# Altium schematic symbol library Converter_DCDC.SchLib: 658 symbols (part 3 of 7)
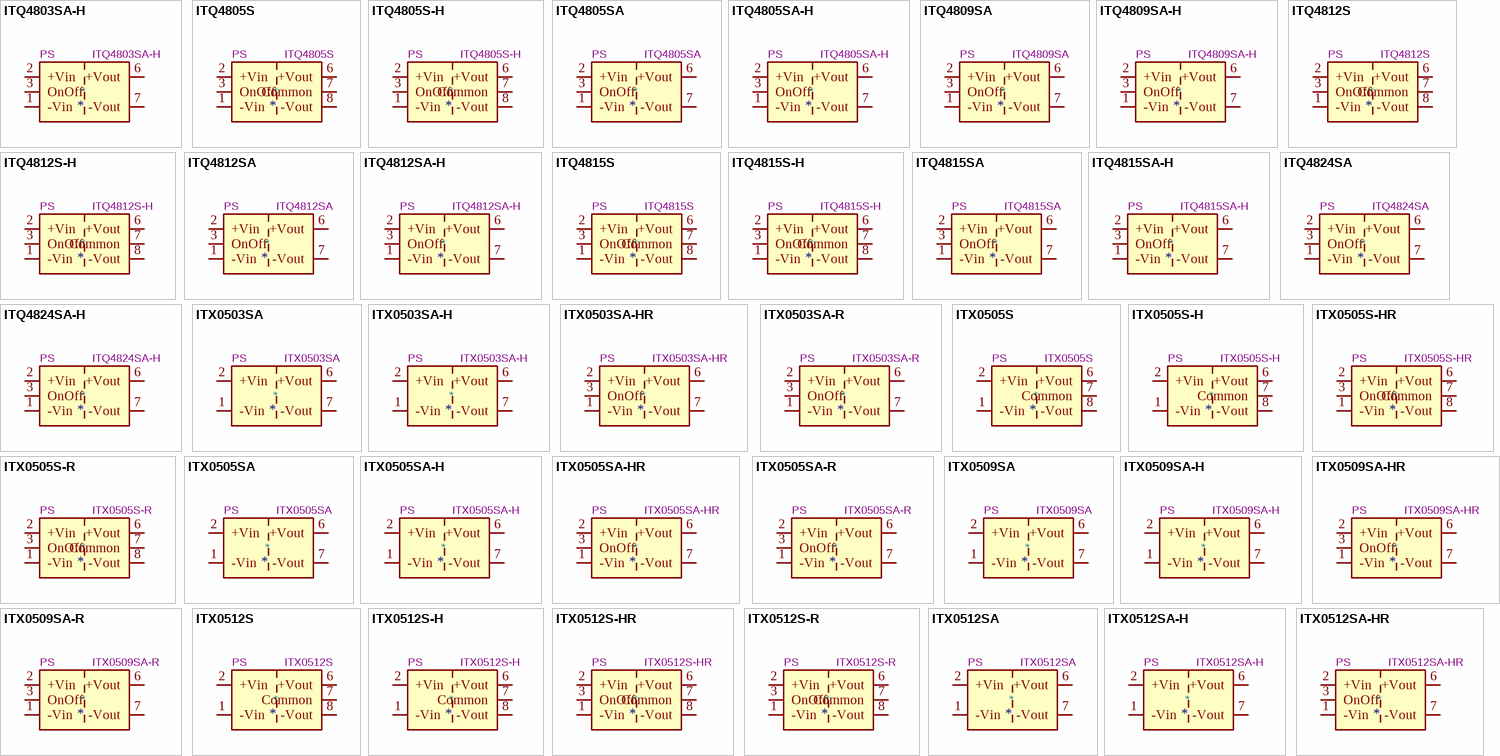
[diagram p18: symbols ITQ4803SA-H to ITX0512SA-HR]

## ITX0505S-H
designator *  value ITX0505S-H  Reference: PS
ki_keywords: XP_POWER DC/DC isolated Converter module; ki_description: XP Power 6W, 3000 VDC Isolated DC/DC Converter Module, Fully Regulated Dual Output Voltage ±5V, ±600mA, 5V Input Voltage, SIP; ki_fp_filters: *XP?POWER?ITxxxxx*; Footprint: Converter_DCDC:Converter_DCDC_XP_POWER-ITxxxxxS_THT; Datasheet: https://www.xppower.com/pdfs/SF_ITX.pdf
pins: 1 -Vin, 2 +Vin, 3 NC hidden, 5 NC hidden, 6 +Vout, 7 Common, 8 -Vout

## ITX0505S-HR
designator *  value ITX0505S-HR  Reference: PS
ki_keywords: XP_POWER DC/DC isolated Converter module; ki_description: XP Power 6W, 3000 VDC Isolated DC/DC Converter Module, Remote Control, Fully Regulated Dual Output Voltage ±5V, ±600mA, 5V Input Voltage, SIP; ki_fp_filters: *XP?POWER?ITxxxxx*; Footprint: Converter_DCDC:Converter_DCDC_XP_POWER-ITxxxxxS_THT; Datasheet: https://www.xppower.com/pdfs/SF_ITX.pdf
pins: 1 -Vin, 2 +Vin, 3 OnOff, 5 NC hidden, 6 +Vout, 7 Common, 8 -Vout

## ITX0505S-R
designator *  value ITX0505S-R  Reference: PS
ki_keywords: XP_POWER DC/DC isolated Converter module; ki_description: XP Power 6W, 1000 VDC Isolated DC/DC Converter Module, Remote Control, Fully Regulated Dual Output Voltage ±5V, ±600mA, 5V Input Voltage, SIP; ki_fp_filters: *XP?POWER?ITxxxxx*; Footprint: Converter_DCDC:Converter_DCDC_XP_POWER-ITxxxxxS_THT; Datasheet: https://www.xppower.com/pdfs/SF_ITX.pdf
pins: 1 -Vin, 2 +Vin, 3 OnOff, 5 NC hidden, 6 +Vout, 7 Common, 8 -Vout

## ITX0505SA
designator *  value ITX0505SA  Reference: PS
ki_keywords: XP_POWER DC/DC isolated Converter module; ki_description: XP Power 6W, 1000 VDC Isolated DC/DC Converter Module, Fully Regulated Single Output Voltage 5V, ±1200mA, 5V Input Voltage, SIP; ki_fp_filters: *XP?POWER?ITXxxxxSA*; Footprint: Converter_DCDC:Converter_DCDC_XP_POWER-ITXxxxxSA_THT; Datasheet: https://www.xppower.com/pdfs/SF_ITX.pdf
pins: 1 -Vin, 2 +Vin, 6 +Vout, 7 -Vout, 8 NC hidden

## ITX0505SA-H
designator *  value ITX0505SA-H  Reference: PS
ki_keywords: XP_POWER DC/DC isolated Converter module; ki_description: XP Power 6W, 3000 VDC Isolated DC/DC Converter Module, Fully Regulated Single Output Voltage 5V, ±1200mA, 5V Input Voltage, SIP; ki_fp_filters: *XP?POWER?ITXxxxxSA*; Footprint: Converter_DCDC:Converter_DCDC_XP_POWER-ITXxxxxSA_THT; Datasheet: https://www.xppower.com/pdfs/SF_ITX.pdf
pins: 1 -Vin, 2 +Vin, 6 +Vout, 7 -Vout, 8 NC hidden

## ITX0505SA-HR
designator *  value ITX0505SA-HR  Reference: PS
ki_keywords: XP_POWER DC/DC isolated Converter module; ki_description: XP Power 6W, 3000 VDC Isolated DC/DC Converter Module, Remote Control, Fully Regulated Single Output Voltage 5V, ±1200mA, 5V Input Voltage, SIP; ki_fp_filters: *XP?POWER?ITxxxxx*; Footprint: Converter_DCDC:Converter_DCDC_XP_POWER-ITxxxxxS_THT; Datasheet: https://www.xppower.com/pdfs/SF_ITX.pdf
pins: 1 -Vin, 2 +Vin, 3 OnOff, 5 NC hidden, 6 +Vout, 7 -Vout, 8 NC hidden

## ITX0505SA-R
designator *  value ITX0505SA-R  Reference: PS
ki_keywords: XP_POWER DC/DC isolated Converter module; ki_description: XP Power 6W, 1000 VDC Isolated DC/DC Converter Module, Remote Control, Fully Regulated Single Output Voltage 5V, ±1200mA, 5V Input Voltage, SIP; ki_fp_filters: *XP?POWER?ITxxxxx*; Footprint: Converter_DCDC:Converter_DCDC_XP_POWER-ITxxxxxS_THT; Datasheet: https://www.xppower.com/pdfs/SF_ITX.pdf
pins: 1 -Vin, 2 +Vin, 3 OnOff, 5 NC hidden, 6 +Vout, 7 -Vout, 8 NC hidden

## ITX0509SA
designator *  value ITX0509SA  Reference: PS
ki_keywords: XP_POWER DC/DC isolated Converter module; ki_description: XP Power 6W, 1000 VDC Isolated DC/DC Converter Module, Fully Regulated Single Output Voltage 9V, ±666mA, 5V Input Voltage, SIP; ki_fp_filters: *XP?POWER?ITXxxxxSA*; Footprint: Converter_DCDC:Converter_DCDC_XP_POWER-ITXxxxxSA_THT; Datasheet: https://www.xppower.com/pdfs/SF_ITX.pdf
pins: 1 -Vin, 2 +Vin, 6 +Vout, 7 -Vout, 8 NC hidden

## ITX0509SA-H
designator *  value ITX0509SA-H  Reference: PS
ki_keywords: XP_POWER DC/DC isolated Converter module; ki_description: XP Power 6W, 3000 VDC Isolated DC/DC Converter Module, Fully Regulated Single Output Voltage 9V, ±666mA, 5V Input Voltage, SIP; ki_fp_filters: *XP?POWER?ITXxxxxSA*; Footprint: Converter_DCDC:Converter_DCDC_XP_POWER-ITXxxxxSA_THT; Datasheet: https://www.xppower.com/pdfs/SF_ITX.pdf
pins: 1 -Vin, 2 +Vin, 6 +Vout, 7 -Vout, 8 NC hidden

## ITX0509SA-HR
designator *  value ITX0509SA-HR  Reference: PS
ki_keywords: XP_POWER DC/DC isolated Converter module; ki_description: XP Power 6W, 3000 VDC Isolated DC/DC Converter Module, Remote Control, Fully Regulated Single Output Voltage 9V, ±666mA, 5V Input Voltage, SIP; ki_fp_filters: *XP?POWER?ITxxxxx*; Footprint: Converter_DCDC:Converter_DCDC_XP_POWER-ITxxxxxS_THT; Datasheet: https://www.xppower.com/pdfs/SF_ITX.pdf
pins: 1 -Vin, 2 +Vin, 3 OnOff, 5 NC hidden, 6 +Vout, 7 -Vout, 8 NC hidden

## ITX0509SA-R
designator *  value ITX0509SA-R  Reference: PS
ki_keywords: XP_POWER DC/DC isolated Converter module; ki_description: XP Power 6W, 1000 VDC Isolated DC/DC Converter Module, Remote Control, Fully Regulated Single Output Voltage 9V, ±666mA, 5V Input Voltage, SIP; ki_fp_filters: *XP?POWER?ITxxxxx*; Footprint: Converter_DCDC:Converter_DCDC_XP_POWER-ITxxxxxS_THT; Datasheet: https://www.xppower.com/pdfs/SF_ITX.pdf
pins: 1 -Vin, 2 +Vin, 3 OnOff, 5 NC hidden, 6 +Vout, 7 -Vout, 8 NC hidden

## ITX0512S
designator *  value ITX0512S  Reference: PS
ki_keywords: XP_POWER DC/DC isolated Converter module; ki_description: XP Power 6W, 1000 VDC Isolated DC/DC Converter Module, Fully Regulated Dual Output Voltage ±12V, ±250mA, 5V Input Voltage, SIP; ki_fp_filters: *XP?POWER?ITxxxxx*; Footprint: Converter_DCDC:Converter_DCDC_XP_POWER-ITxxxxxS_THT; Datasheet: https://www.xppower.com/pdfs/SF_ITX.pdf
pins: 1 -Vin, 2 +Vin, 3 NC hidden, 5 NC hidden, 6 +Vout, 7 Common, 8 -Vout

## ITX0512S-H
designator *  value ITX0512S-H  Reference: PS
ki_keywords: XP_POWER DC/DC isolated Converter module; ki_description: XP Power 6W, 3000 VDC Isolated DC/DC Converter Module, Fully Regulated Dual Output Voltage ±12V, ±250mA, 5V Input Voltage, SIP; ki_fp_filters: *XP?POWER?ITxxxxx*; Footprint: Converter_DCDC:Converter_DCDC_XP_POWER-ITxxxxxS_THT; Datasheet: https://www.xppower.com/pdfs/SF_ITX.pdf
pins: 1 -Vin, 2 +Vin, 3 NC hidden, 5 NC hidden, 6 +Vout, 7 Common, 8 -Vout

## ITX0512S-HR
designator *  value ITX0512S-HR  Reference: PS
ki_keywords: XP_POWER DC/DC isolated Converter module; ki_description: XP Power 6W, 3000 VDC Isolated DC/DC Converter Module, Remote Control, Fully Regulated Dual Output Voltage ±12V, ±250mA, 5V Input Voltage, SIP; ki_fp_filters: *XP?POWER?ITxxxxx*; Footprint: Converter_DCDC:Converter_DCDC_XP_POWER-ITxxxxxS_THT; Datasheet: https://www.xppower.com/pdfs/SF_ITX.pdf
pins: 1 -Vin, 2 +Vin, 3 OnOff, 5 NC hidden, 6 +Vout, 7 Common, 8 -Vout

## ITX0512S-R
designator *  value ITX0512S-R  Reference: PS
ki_keywords: XP_POWER DC/DC isolated Converter module; ki_description: XP Power 6W, 1000 VDC Isolated DC/DC Converter Module, Remote Control, Fully Regulated Dual Output Voltage ±12V, ±250mA, 5V Input Voltage, SIP; ki_fp_filters: *XP?POWER?ITxxxxx*; Footprint: Converter_DCDC:Converter_DCDC_XP_POWER-ITxxxxxS_THT; Datasheet: https://www.xppower.com/pdfs/SF_ITX.pdf
pins: 1 -Vin, 2 +Vin, 3 OnOff, 5 NC hidden, 6 +Vout, 7 Common, 8 -Vout

## ITX0512SA
designator *  value ITX0512SA  Reference: PS
ki_keywords: XP_POWER DC/DC isolated Converter module; ki_description: XP Power 6W, 1000 VDC Isolated DC/DC Converter Module, Fully Regulated Single Output Voltage 12V, ±500mA, 5V Input Voltage, SIP; ki_fp_filters: *XP?POWER?ITXxxxxSA*; Footprint: Converter_DCDC:Converter_DCDC_XP_POWER-ITXxxxxSA_THT; Datasheet: https://www.xppower.com/pdfs/SF_ITX.pdf
pins: 1 -Vin, 2 +Vin, 6 +Vout, 7 -Vout, 8 NC hidden

## ITX0512SA-H
designator *  value ITX0512SA-H  Reference: PS
ki_keywords: XP_POWER DC/DC isolated Converter module; ki_description: XP Power 6W, 3000 VDC Isolated DC/DC Converter Module, Fully Regulated Single Output Voltage 12V, ±500mA, 5V Input Voltage, SIP; ki_fp_filters: *XP?POWER?ITXxxxxSA*; Footprint: Converter_DCDC:Converter_DCDC_XP_POWER-ITXxxxxSA_THT; Datasheet: https://www.xppower.com/pdfs/SF_ITX.pdf
pins: 1 -Vin, 2 +Vin, 6 +Vout, 7 -Vout, 8 NC hidden

## ITX0512SA-HR
designator *  value ITX0512SA-HR  Reference: PS
ki_keywords: XP_POWER DC/DC isolated Converter module; ki_description: XP Power 6W, 3000 VDC Isolated DC/DC Converter Module, Remote Control, Fully Regulated Single Output Voltage 12V, ±500mA, 5V Input Voltage, SIP; ki_fp_filters: *XP?POWER?ITxxxxx*; Footprint: Converter_DCDC:Converter_DCDC_XP_POWER-ITxxxxxS_THT; Datasheet: https://www.xppower.com/pdfs/SF_ITX.pdf
pins: 1 -Vin, 2 +Vin, 3 OnOff, 5 NC hidden, 6 +Vout, 7 -Vout, 8 NC hidden

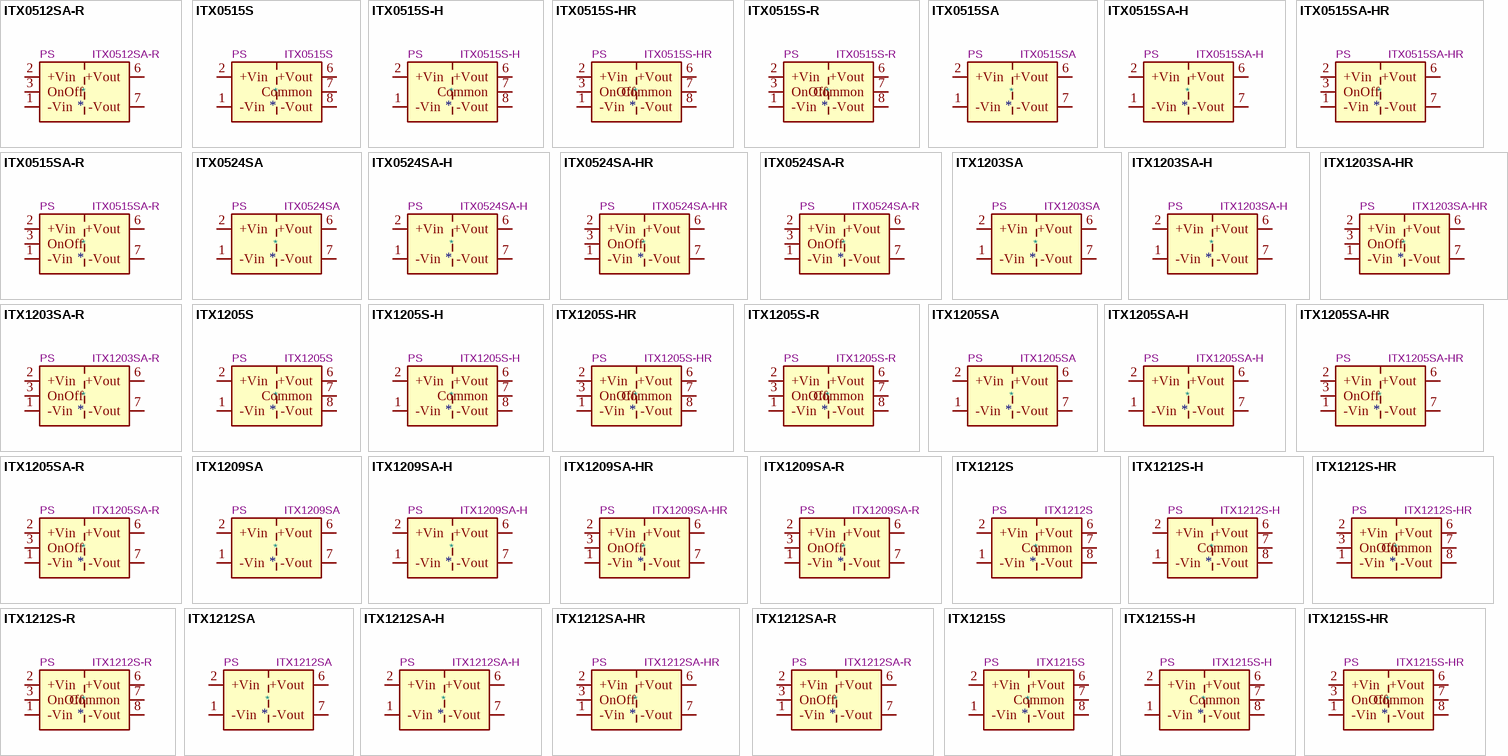
[diagram p6: symbols ITX0512SA-R to ITX1215S-HR]

## ITX0512SA-R
designator *  value ITX0512SA-R  Reference: PS
ki_keywords: XP_POWER DC/DC isolated Converter module; ki_description: XP Power 6W, 1000 VDC Isolated DC/DC Converter Module, Remote Control, Fully Regulated Single Output Voltage 12V, ±500mA, 5V Input Voltage, SIP; ki_fp_filters: *XP?POWER?ITxxxxx*; Footprint: Converter_DCDC:Converter_DCDC_XP_POWER-ITxxxxxS_THT; Datasheet: https://www.xppower.com/pdfs/SF_ITX.pdf
pins: 1 -Vin, 2 +Vin, 3 OnOff, 5 NC hidden, 6 +Vout, 7 -Vout, 8 NC hidden

## ITX0515S
designator *  value ITX0515S  Reference: PS
ki_keywords: XP_POWER DC/DC isolated Converter module; ki_description: XP Power 6W, 1000 VDC Isolated DC/DC Converter Module, Fully Regulated Dual Output Voltage ±15V, ±200mA, 5V Input Voltage, SIP; ki_fp_filters: *XP?POWER?ITxxxxx*; Footprint: Converter_DCDC:Converter_DCDC_XP_POWER-ITxxxxxS_THT; Datasheet: https://www.xppower.com/pdfs/SF_ITX.pdf
pins: 1 -Vin, 2 +Vin, 3 NC hidden, 5 NC hidden, 6 +Vout, 7 Common, 8 -Vout

## ITX0515S-H
designator *  value ITX0515S-H  Reference: PS
ki_keywords: XP_POWER DC/DC isolated Converter module; ki_description: XP Power 6W, 3000 VDC Isolated DC/DC Converter Module, Fully Regulated Dual Output Voltage ±15V, ±200mA, 5V Input Voltage, SIP; ki_fp_filters: *XP?POWER?ITxxxxx*; Footprint: Converter_DCDC:Converter_DCDC_XP_POWER-ITxxxxxS_THT; Datasheet: https://www.xppower.com/pdfs/SF_ITX.pdf
pins: 1 -Vin, 2 +Vin, 3 NC hidden, 5 NC hidden, 6 +Vout, 7 Common, 8 -Vout

## ITX0515S-HR
designator *  value ITX0515S-HR  Reference: PS
ki_keywords: XP_POWER DC/DC isolated Converter module; ki_description: XP Power 6W, 3000 VDC Isolated DC/DC Converter Module, Remote Control, Fully Regulated Dual Output Voltage ±15V, ±200mA, 5V Input Voltage, SIP; ki_fp_filters: *XP?POWER?ITxxxxx*; Footprint: Converter_DCDC:Converter_DCDC_XP_POWER-ITxxxxxS_THT; Datasheet: https://www.xppower.com/pdfs/SF_ITX.pdf
pins: 1 -Vin, 2 +Vin, 3 OnOff, 5 NC hidden, 6 +Vout, 7 Common, 8 -Vout

## ITX0515S-R
designator *  value ITX0515S-R  Reference: PS
ki_keywords: XP_POWER DC/DC isolated Converter module; ki_description: XP Power 6W, 1000 VDC Isolated DC/DC Converter Module, Remote Control, Fully Regulated Dual Output Voltage ±15V, ±200mA, 5V Input Voltage, SIP; ki_fp_filters: *XP?POWER?ITxxxxx*; Footprint: Converter_DCDC:Converter_DCDC_XP_POWER-ITxxxxxS_THT; Datasheet: https://www.xppower.com/pdfs/SF_ITX.pdf
pins: 1 -Vin, 2 +Vin, 3 OnOff, 5 NC hidden, 6 +Vout, 7 Common, 8 -Vout

## ITX0515SA
designator *  value ITX0515SA  Reference: PS
ki_keywords: XP_POWER DC/DC isolated Converter module; ki_description: XP Power 6W, 1000 VDC Isolated DC/DC Converter Module, Fully Regulated Single Output Voltage 15V, ±400mA, 5V Input Voltage, SIP; ki_fp_filters: *XP?POWER?ITXxxxxSA*; Footprint: Converter_DCDC:Converter_DCDC_XP_POWER-ITXxxxxSA_THT; Datasheet: https://www.xppower.com/pdfs/SF_ITX.pdf
pins: 1 -Vin, 2 +Vin, 6 +Vout, 7 -Vout, 8 NC hidden

## ITX0515SA-H
designator *  value ITX0515SA-H  Reference: PS
ki_keywords: XP_POWER DC/DC isolated Converter module; ki_description: XP Power 6W, 3000 VDC Isolated DC/DC Converter Module, Fully Regulated Single Output Voltage 15V, ±400mA, 5V Input Voltage, SIP; ki_fp_filters: *XP?POWER?ITXxxxxSA*; Footprint: Converter_DCDC:Converter_DCDC_XP_POWER-ITXxxxxSA_THT; Datasheet: https://www.xppower.com/pdfs/SF_ITX.pdf
pins: 1 -Vin, 2 +Vin, 6 +Vout, 7 -Vout, 8 NC hidden

## ITX0515SA-HR
designator *  value ITX0515SA-HR  Reference: PS
ki_keywords: XP_POWER DC/DC isolated Converter module; ki_description: XP Power 6W, 3000 VDC Isolated DC/DC Converter Module, Remote Control, Fully Regulated Single Output Voltage 15V, ±400mA, 5V Input Voltage, SIP; ki_fp_filters: *XP?POWER?ITxxxxx*; Footprint: Converter_DCDC:Converter_DCDC_XP_POWER-ITxxxxxS_THT; Datasheet: https://www.xppower.com/pdfs/SF_ITX.pdf
pins: 1 -Vin, 2 +Vin, 3 OnOff, 5 NC hidden, 6 +Vout, 7 -Vout, 8 NC hidden

## ITX0515SA-R
designator *  value ITX0515SA-R  Reference: PS
ki_keywords: XP_POWER DC/DC isolated Converter module; ki_description: XP Power 6W, 1000 VDC Isolated DC/DC Converter Module, Remote Control, Fully Regulated Single Output Voltage 15V, ±400mA, 5V Input Voltage, SIP; ki_fp_filters: *XP?POWER?ITxxxxx*; Footprint: Converter_DCDC:Converter_DCDC_XP_POWER-ITxxxxxS_THT; Datasheet: https://www.xppower.com/pdfs/SF_ITX.pdf
pins: 1 -Vin, 2 +Vin, 3 OnOff, 5 NC hidden, 6 +Vout, 7 -Vout, 8 NC hidden

## ITX0524SA
designator *  value ITX0524SA  Reference: PS
ki_keywords: XP_POWER DC/DC isolated Converter module; ki_description: XP Power 6W, 1000 VDC Isolated DC/DC Converter Module, Fully Regulated Single Output Voltage 24V, ±250mA, 5V Input Voltage, SIP; ki_fp_filters: *XP?POWER?ITXxxxxSA*; Footprint: Converter_DCDC:Converter_DCDC_XP_POWER-ITXxxxxSA_THT; Datasheet: https://www.xppower.com/pdfs/SF_ITX.pdf
pins: 1 -Vin, 2 +Vin, 6 +Vout, 7 -Vout, 8 NC hidden

## ITX0524SA-H
designator *  value ITX0524SA-H  Reference: PS
ki_keywords: XP_POWER DC/DC isolated Converter module; ki_description: XP Power 6W, 3000 VDC Isolated DC/DC Converter Module, Fully Regulated Single Output Voltage 24V, ±250mA, 5V Input Voltage, SIP; ki_fp_filters: *XP?POWER?ITXxxxxSA*; Footprint: Converter_DCDC:Converter_DCDC_XP_POWER-ITXxxxxSA_THT; Datasheet: https://www.xppower.com/pdfs/SF_ITX.pdf
pins: 1 -Vin, 2 +Vin, 6 +Vout, 7 -Vout, 8 NC hidden

## ITX0524SA-HR
designator *  value ITX0524SA-HR  Reference: PS
ki_keywords: XP_POWER DC/DC isolated Converter module; ki_description: XP Power 6W, 3000 VDC Isolated DC/DC Converter Module, Remote Control, Fully Regulated Single Output Voltage 24V, ±250mA, 5V Input Voltage, SIP; ki_fp_filters: *XP?POWER?ITxxxxx*; Footprint: Converter_DCDC:Converter_DCDC_XP_POWER-ITxxxxxS_THT; Datasheet: https://www.xppower.com/pdfs/SF_ITX.pdf
pins: 1 -Vin, 2 +Vin, 3 OnOff, 5 NC hidden, 6 +Vout, 7 -Vout, 8 NC hidden

## ITX0524SA-R
designator *  value ITX0524SA-R  Reference: PS
ki_keywords: XP_POWER DC/DC isolated Converter module; ki_description: XP Power 6W, 1000 VDC Isolated DC/DC Converter Module, Remote Control, Fully Regulated Single Output Voltage 24V, ±250mA, 5V Input Voltage, SIP; ki_fp_filters: *XP?POWER?ITxxxxx*; Footprint: Converter_DCDC:Converter_DCDC_XP_POWER-ITxxxxxS_THT; Datasheet: https://www.xppower.com/pdfs/SF_ITX.pdf
pins: 1 -Vin, 2 +Vin, 3 OnOff, 5 NC hidden, 6 +Vout, 7 -Vout, 8 NC hidden

## ITX1203SA
designator *  value ITX1203SA  Reference: PS
ki_keywords: XP_POWER DC/DC isolated Converter module; ki_description: XP Power 6W, 1000 VDC Isolated DC/DC Converter Module, Fully Regulated Single Output Voltage 3.3V, ±1300mA, 12V Input Voltage, SIP; ki_fp_filters: *XP?POWER?ITXxxxxSA*; Footprint: Converter_DCDC:Converter_DCDC_XP_POWER-ITXxxxxSA_THT; Datasheet: https://www.xppower.com/pdfs/SF_ITX.pdf
pins: 1 -Vin, 2 +Vin, 6 +Vout, 7 -Vout, 8 NC hidden

## ITX1203SA-H
designator *  value ITX1203SA-H  Reference: PS
ki_keywords: XP_POWER DC/DC isolated Converter module; ki_description: XP Power 6W, 3000 VDC Isolated DC/DC Converter Module, Fully Regulated Single Output Voltage 3.3V, ±1300mA, 12V Input Voltage, SIP; ki_fp_filters: *XP?POWER?ITXxxxxSA*; Footprint: Converter_DCDC:Converter_DCDC_XP_POWER-ITXxxxxSA_THT; Datasheet: https://www.xppower.com/pdfs/SF_ITX.pdf
pins: 1 -Vin, 2 +Vin, 6 +Vout, 7 -Vout, 8 NC hidden

## ITX1203SA-HR
designator *  value ITX1203SA-HR  Reference: PS
ki_keywords: XP_POWER DC/DC isolated Converter module; ki_description: XP Power 6W, 3000 VDC Isolated DC/DC Converter Module, Remote Control, Fully Regulated Single Output Voltage 3.3V, ±1300mA, 12V Input Voltage, SIP; ki_fp_filters: *XP?POWER?ITxxxxx*; Footprint: Converter_DCDC:Converter_DCDC_XP_POWER-ITxxxxxS_THT; Datasheet: https://www.xppower.com/pdfs/SF_ITX.pdf
pins: 1 -Vin, 2 +Vin, 3 OnOff, 5 NC hidden, 6 +Vout, 7 -Vout, 8 NC hidden

## ITX1203SA-R
designator *  value ITX1203SA-R  Reference: PS
ki_keywords: XP_POWER DC/DC isolated Converter module; ki_description: XP Power 6W, 1000 VDC Isolated DC/DC Converter Module, Remote Control, Fully Regulated Single Output Voltage 3.3V, ±1300mA, 12V Input Voltage, SIP; ki_fp_filters: *XP?POWER?ITxxxxx*; Footprint: Converter_DCDC:Converter_DCDC_XP_POWER-ITxxxxxS_THT; Datasheet: https://www.xppower.com/pdfs/SF_ITX.pdf
pins: 1 -Vin, 2 +Vin, 3 OnOff, 5 NC hidden, 6 +Vout, 7 -Vout, 8 NC hidden

## ITX1205S
designator *  value ITX1205S  Reference: PS
ki_keywords: XP_POWER DC/DC isolated Converter module; ki_description: XP Power 6W, 1000 VDC Isolated DC/DC Converter Module, Fully Regulated Dual Output Voltage ±5V, ±600mA, 12V Input Voltage, SIP; ki_fp_filters: *XP?POWER?ITxxxxx*; Footprint: Converter_DCDC:Converter_DCDC_XP_POWER-ITxxxxxS_THT; Datasheet: https://www.xppower.com/pdfs/SF_ITX.pdf
pins: 1 -Vin, 2 +Vin, 3 NC hidden, 5 NC hidden, 6 +Vout, 7 Common, 8 -Vout

## ITX1205S-H
designator *  value ITX1205S-H  Reference: PS
ki_keywords: XP_POWER DC/DC isolated Converter module; ki_description: XP Power 6W, 3000 VDC Isolated DC/DC Converter Module, Fully Regulated Dual Output Voltage ±5V, ±600mA, 12V Input Voltage, SIP; ki_fp_filters: *XP?POWER?ITxxxxx*; Footprint: Converter_DCDC:Converter_DCDC_XP_POWER-ITxxxxxS_THT; Datasheet: https://www.xppower.com/pdfs/SF_ITX.pdf
pins: 1 -Vin, 2 +Vin, 3 NC hidden, 5 NC hidden, 6 +Vout, 7 Common, 8 -Vout

## ITX1205S-HR
designator *  value ITX1205S-HR  Reference: PS
ki_keywords: XP_POWER DC/DC isolated Converter module; ki_description: XP Power 6W, 3000 VDC Isolated DC/DC Converter Module, Remote Control, Fully Regulated Dual Output Voltage ±5V, ±600mA, 12V Input Voltage, SIP; ki_fp_filters: *XP?POWER?ITxxxxx*; Footprint: Converter_DCDC:Converter_DCDC_XP_POWER-ITxxxxxS_THT; Datasheet: https://www.xppower.com/pdfs/SF_ITX.pdf
pins: 1 -Vin, 2 +Vin, 3 OnOff, 5 NC hidden, 6 +Vout, 7 Common, 8 -Vout

## ITX1205S-R
designator *  value ITX1205S-R  Reference: PS
ki_keywords: XP_POWER DC/DC isolated Converter module; ki_description: XP Power 6W, 1000 VDC Isolated DC/DC Converter Module, Remote Control, Fully Regulated Dual Output Voltage ±5V, ±600mA, 12V Input Voltage, SIP; ki_fp_filters: *XP?POWER?ITxxxxx*; Footprint: Converter_DCDC:Converter_DCDC_XP_POWER-ITxxxxxS_THT; Datasheet: https://www.xppower.com/pdfs/SF_ITX.pdf
pins: 1 -Vin, 2 +Vin, 3 OnOff, 5 NC hidden, 6 +Vout, 7 Common, 8 -Vout

## ITX1205SA
designator *  value ITX1205SA  Reference: PS
ki_keywords: XP_POWER DC/DC isolated Converter module; ki_description: XP Power 6W, 1000 VDC Isolated DC/DC Converter Module, Fully Regulated Single Output Voltage 5V, ±1200mA, 12V Input Voltage, SIP; ki_fp_filters: *XP?POWER?ITXxxxxSA*; Footprint: Converter_DCDC:Converter_DCDC_XP_POWER-ITXxxxxSA_THT; Datasheet: https://www.xppower.com/pdfs/SF_ITX.pdf
pins: 1 -Vin, 2 +Vin, 6 +Vout, 7 -Vout, 8 NC hidden

## ITX1205SA-H
designator *  value ITX1205SA-H  Reference: PS
ki_keywords: XP_POWER DC/DC isolated Converter module; ki_description: XP Power 6W, 3000 VDC Isolated DC/DC Converter Module, Fully Regulated Single Output Voltage 5V, ±1200mA, 12V Input Voltage, SIP; ki_fp_filters: *XP?POWER?ITXxxxxSA*; Footprint: Converter_DCDC:Converter_DCDC_XP_POWER-ITXxxxxSA_THT; Datasheet: https://www.xppower.com/pdfs/SF_ITX.pdf
pins: 1 -Vin, 2 +Vin, 6 +Vout, 7 -Vout, 8 NC hidden

## ITX1205SA-HR
designator *  value ITX1205SA-HR  Reference: PS
ki_keywords: XP_POWER DC/DC isolated Converter module; ki_description: XP Power 6W, 3000 VDC Isolated DC/DC Converter Module, Remote Control, Fully Regulated Single Output Voltage 5V, ±1200mA, 12V Input Voltage, SIP; ki_fp_filters: *XP?POWER?ITxxxxx*; Footprint: Converter_DCDC:Converter_DCDC_XP_POWER-ITxxxxxS_THT; Datasheet: https://www.xppower.com/pdfs/SF_ITX.pdf
pins: 1 -Vin, 2 +Vin, 3 OnOff, 5 NC hidden, 6 +Vout, 7 -Vout, 8 NC hidden

## ITX1205SA-R
designator *  value ITX1205SA-R  Reference: PS
ki_keywords: XP_POWER DC/DC isolated Converter module; ki_description: XP Power 6W, 1000 VDC Isolated DC/DC Converter Module, Remote Control, Fully Regulated Single Output Voltage 5V, ±1200mA, 12V Input Voltage, SIP; ki_fp_filters: *XP?POWER?ITxxxxx*; Footprint: Converter_DCDC:Converter_DCDC_XP_POWER-ITxxxxxS_THT; Datasheet: https://www.xppower.com/pdfs/SF_ITX.pdf
pins: 1 -Vin, 2 +Vin, 3 OnOff, 5 NC hidden, 6 +Vout, 7 -Vout, 8 NC hidden

## ITX1209SA
designator *  value ITX1209SA  Reference: PS
ki_keywords: XP_POWER DC/DC isolated Converter module; ki_description: XP Power 6W, 1000 VDC Isolated DC/DC Converter Module, Fully Regulated Single Output Voltage 9V, ±666mA, 12V Input Voltage, SIP; ki_fp_filters: *XP?POWER?ITXxxxxSA*; Footprint: Converter_DCDC:Converter_DCDC_XP_POWER-ITXxxxxSA_THT; Datasheet: https://www.xppower.com/pdfs/SF_ITX.pdf
pins: 1 -Vin, 2 +Vin, 6 +Vout, 7 -Vout, 8 NC hidden

## ITX1209SA-H
designator *  value ITX1209SA-H  Reference: PS
ki_keywords: XP_POWER DC/DC isolated Converter module; ki_description: XP Power 6W, 3000 VDC Isolated DC/DC Converter Module, Fully Regulated Single Output Voltage 9V, ±666mA, 12V Input Voltage, SIP; ki_fp_filters: *XP?POWER?ITXxxxxSA*; Footprint: Converter_DCDC:Converter_DCDC_XP_POWER-ITXxxxxSA_THT; Datasheet: https://www.xppower.com/pdfs/SF_ITX.pdf
pins: 1 -Vin, 2 +Vin, 6 +Vout, 7 -Vout, 8 NC hidden

## ITX1209SA-HR
designator *  value ITX1209SA-HR  Reference: PS
ki_keywords: XP_POWER DC/DC isolated Converter module; ki_description: XP Power 6W, 3000 VDC Isolated DC/DC Converter Module, Remote Control, Fully Regulated Single Output Voltage 9V, ±666mA, 12V Input Voltage, SIP; ki_fp_filters: *XP?POWER?ITxxxxx*; Footprint: Converter_DCDC:Converter_DCDC_XP_POWER-ITxxxxxS_THT; Datasheet: https://www.xppower.com/pdfs/SF_ITX.pdf
pins: 1 -Vin, 2 +Vin, 3 OnOff, 5 NC hidden, 6 +Vout, 7 -Vout, 8 NC hidden

## ITX1209SA-R
designator *  value ITX1209SA-R  Reference: PS
ki_keywords: XP_POWER DC/DC isolated Converter module; ki_description: XP Power 6W, 1000 VDC Isolated DC/DC Converter Module, Remote Control, Fully Regulated Single Output Voltage 9V, ±666mA, 12V Input Voltage, SIP; ki_fp_filters: *XP?POWER?ITxxxxx*; Footprint: Converter_DCDC:Converter_DCDC_XP_POWER-ITxxxxxS_THT; Datasheet: https://www.xppower.com/pdfs/SF_ITX.pdf
pins: 1 -Vin, 2 +Vin, 3 OnOff, 5 NC hidden, 6 +Vout, 7 -Vout, 8 NC hidden

## ITX1212S
designator *  value ITX1212S  Reference: PS
ki_keywords: XP_POWER DC/DC isolated Converter module; ki_description: XP Power 6W, 1000 VDC Isolated DC/DC Converter Module, Fully Regulated Dual Output Voltage ±12V, ±250mA, 12V Input Voltage, SIP; ki_fp_filters: *XP?POWER?ITxxxxx*; Footprint: Converter_DCDC:Converter_DCDC_XP_POWER-ITxxxxxS_THT; Datasheet: https://www.xppower.com/pdfs/SF_ITX.pdf
pins: 1 -Vin, 2 +Vin, 3 NC hidden, 5 NC hidden, 6 +Vout, 7 Common, 8 -Vout

## ITX1212S-H
designator *  value ITX1212S-H  Reference: PS
ki_keywords: XP_POWER DC/DC isolated Converter module; ki_description: XP Power 6W, 3000 VDC Isolated DC/DC Converter Module, Fully Regulated Dual Output Voltage ±12V, ±250mA, 12V Input Voltage, SIP; ki_fp_filters: *XP?POWER?ITxxxxx*; Footprint: Converter_DCDC:Converter_DCDC_XP_POWER-ITxxxxxS_THT; Datasheet: https://www.xppower.com/pdfs/SF_ITX.pdf
pins: 1 -Vin, 2 +Vin, 3 NC hidden, 5 NC hidden, 6 +Vout, 7 Common, 8 -Vout

## ITX1212S-HR
designator *  value ITX1212S-HR  Reference: PS
ki_keywords: XP_POWER DC/DC isolated Converter module; ki_description: XP Power 6W, 3000 VDC Isolated DC/DC Converter Module, Remote Control, Fully Regulated Dual Output Voltage ±12V, ±250mA, 12V Input Voltage, SIP; ki_fp_filters: *XP?POWER?ITxxxxx*; Footprint: Converter_DCDC:Converter_DCDC_XP_POWER-ITxxxxxS_THT; Datasheet: https://www.xppower.com/pdfs/SF_ITX.pdf
pins: 1 -Vin, 2 +Vin, 3 OnOff, 5 NC hidden, 6 +Vout, 7 Common, 8 -Vout

## ITX1212S-R
designator *  value ITX1212S-R  Reference: PS
ki_keywords: XP_POWER DC/DC isolated Converter module; ki_description: XP Power 6W, 1000 VDC Isolated DC/DC Converter Module, Remote Control, Fully Regulated Dual Output Voltage ±12V, ±250mA, 12V Input Voltage, SIP; ki_fp_filters: *XP?POWER?ITxxxxx*; Footprint: Converter_DCDC:Converter_DCDC_XP_POWER-ITxxxxxS_THT; Datasheet: https://www.xppower.com/pdfs/SF_ITX.pdf
pins: 1 -Vin, 2 +Vin, 3 OnOff, 5 NC hidden, 6 +Vout, 7 Common, 8 -Vout

## ITX1212SA
designator *  value ITX1212SA  Reference: PS
ki_keywords: XP_POWER DC/DC isolated Converter module; ki_description: XP Power 6W, 1000 VDC Isolated DC/DC Converter Module, Fully Regulated Single Output Voltage 12V, ±500mA, 12V Input Voltage, SIP; ki_fp_filters: *XP?POWER?ITXxxxxSA*; Footprint: Converter_DCDC:Converter_DCDC_XP_POWER-ITXxxxxSA_THT; Datasheet: https://www.xppower.com/pdfs/SF_ITX.pdf
pins: 1 -Vin, 2 +Vin, 6 +Vout, 7 -Vout, 8 NC hidden

## ITX1212SA-H
designator *  value ITX1212SA-H  Reference: PS
ki_keywords: XP_POWER DC/DC isolated Converter module; ki_description: XP Power 6W, 3000 VDC Isolated DC/DC Converter Module, Fully Regulated Single Output Voltage 12V, ±500mA, 12V Input Voltage, SIP; ki_fp_filters: *XP?POWER?ITXxxxxSA*; Footprint: Converter_DCDC:Converter_DCDC_XP_POWER-ITXxxxxSA_THT; Datasheet: https://www.xppower.com/pdfs/SF_ITX.pdf
pins: 1 -Vin, 2 +Vin, 6 +Vout, 7 -Vout, 8 NC hidden

## ITX1212SA-HR
designator *  value ITX1212SA-HR  Reference: PS
ki_keywords: XP_POWER DC/DC isolated Converter module; ki_description: XP Power 6W, 3000 VDC Isolated DC/DC Converter Module, Remote Control, Fully Regulated Single Output Voltage 12V, ±500mA, 12V Input Voltage, SIP; ki_fp_filters: *XP?POWER?ITxxxxx*; Footprint: Converter_DCDC:Converter_DCDC_XP_POWER-ITxxxxxS_THT; Datasheet: https://www.xppower.com/pdfs/SF_ITX.pdf
pins: 1 -Vin, 2 +Vin, 3 OnOff, 5 NC hidden, 6 +Vout, 7 -Vout, 8 NC hidden

## ITX1212SA-R
designator *  value ITX1212SA-R  Reference: PS
ki_keywords: XP_POWER DC/DC isolated Converter module; ki_description: XP Power 6W, 1000 VDC Isolated DC/DC Converter Module, Remote Control, Fully Regulated Single Output Voltage 12V, ±500mA, 12V Input Voltage, SIP; ki_fp_filters: *XP?POWER?ITxxxxx*; Footprint: Converter_DCDC:Converter_DCDC_XP_POWER-ITxxxxxS_THT; Datasheet: https://www.xppower.com/pdfs/SF_ITX.pdf
pins: 1 -Vin, 2 +Vin, 3 OnOff, 5 NC hidden, 6 +Vout, 7 -Vout, 8 NC hidden

## ITX1215S
designator *  value ITX1215S  Reference: PS
ki_keywords: XP_POWER DC/DC isolated Converter module; ki_description: XP Power 6W, 1000 VDC Isolated DC/DC Converter Module, Fully Regulated Dual Output Voltage ±15V, ±200mA, 12V Input Voltage, SIP; ki_fp_filters: *XP?POWER?ITxxxxx*; Footprint: Converter_DCDC:Converter_DCDC_XP_POWER-ITxxxxxS_THT; Datasheet: https://www.xppower.com/pdfs/SF_ITX.pdf
pins: 1 -Vin, 2 +Vin, 3 NC hidden, 5 NC hidden, 6 +Vout, 7 Common, 8 -Vout

## ITX1215S-H
designator *  value ITX1215S-H  Reference: PS
ki_keywords: XP_POWER DC/DC isolated Converter module; ki_description: XP Power 6W, 3000 VDC Isolated DC/DC Converter Module, Fully Regulated Dual Output Voltage ±15V, ±200mA, 12V Input Voltage, SIP; ki_fp_filters: *XP?POWER?ITxxxxx*; Footprint: Converter_DCDC:Converter_DCDC_XP_POWER-ITxxxxxS_THT; Datasheet: https://www.xppower.com/pdfs/SF_ITX.pdf
pins: 1 -Vin, 2 +Vin, 3 NC hidden, 5 NC hidden, 6 +Vout, 7 Common, 8 -Vout

## ITX1215S-HR
designator *  value ITX1215S-HR  Reference: PS
ki_keywords: XP_POWER DC/DC isolated Converter module; ki_description: XP Power 6W, 3000 VDC Isolated DC/DC Converter Module, Remote Control, Fully Regulated Dual Output Voltage ±15V, ±200mA, 12V Input Voltage, SIP; ki_fp_filters: *XP?POWER?ITxxxxx*; Footprint: Converter_DCDC:Converter_DCDC_XP_POWER-ITxxxxxS_THT; Datasheet: https://www.xppower.com/pdfs/SF_ITX.pdf
pins: 1 -Vin, 2 +Vin, 3 OnOff, 5 NC hidden, 6 +Vout, 7 Common, 8 -Vout

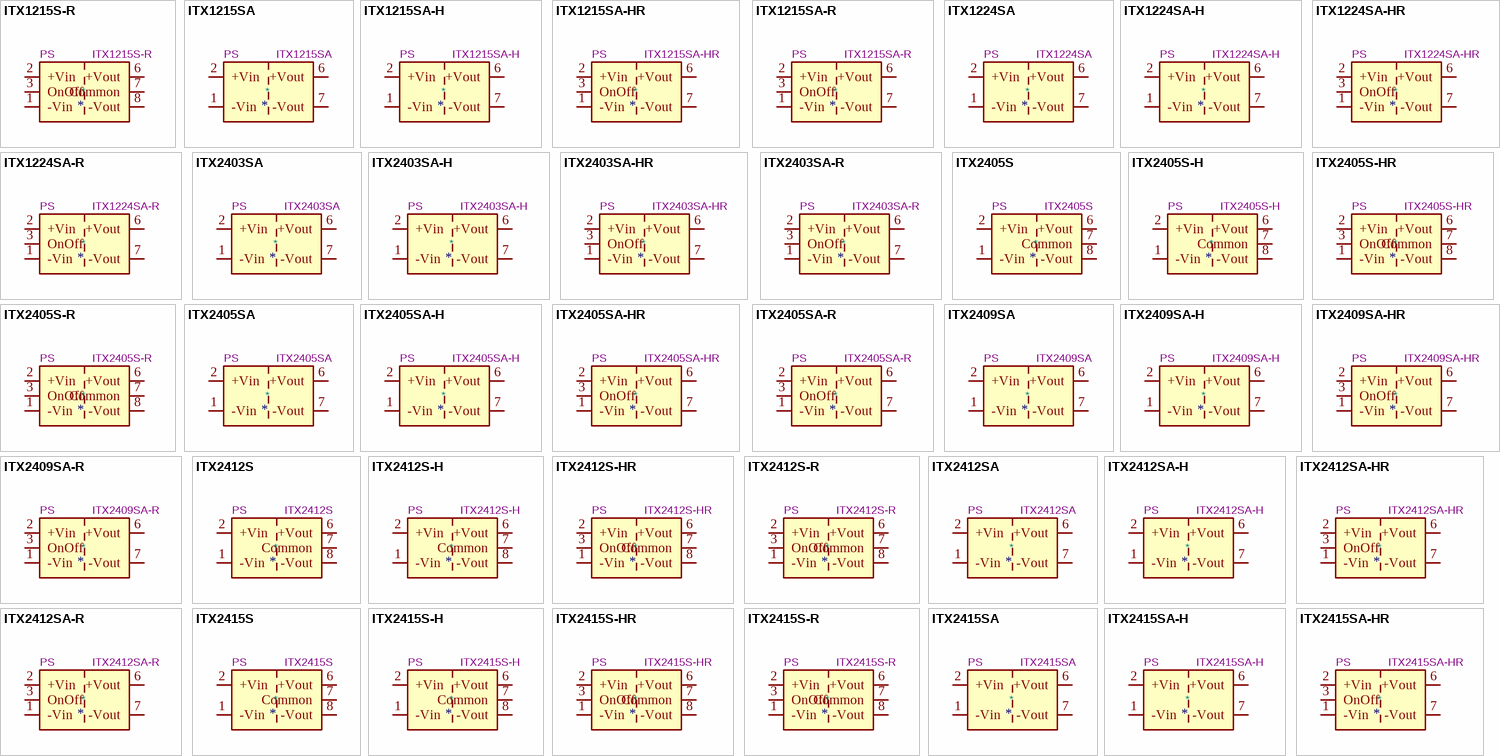
[diagram p7: symbols ITX1215S-R to ITX2415SA-HR]

## ITX1215S-R
designator *  value ITX1215S-R  Reference: PS
ki_keywords: XP_POWER DC/DC isolated Converter module; ki_description: XP Power 6W, 1000 VDC Isolated DC/DC Converter Module, Remote Control, Fully Regulated Dual Output Voltage ±15V, ±200mA, 12V Input Voltage, SIP; ki_fp_filters: *XP?POWER?ITxxxxx*; Footprint: Converter_DCDC:Converter_DCDC_XP_POWER-ITxxxxxS_THT; Datasheet: https://www.xppower.com/pdfs/SF_ITX.pdf
pins: 1 -Vin, 2 +Vin, 3 OnOff, 5 NC hidden, 6 +Vout, 7 Common, 8 -Vout

## ITX1215SA
designator *  value ITX1215SA  Reference: PS
ki_keywords: XP_POWER DC/DC isolated Converter module; ki_description: XP Power 6W, 1000 VDC Isolated DC/DC Converter Module, Fully Regulated Single Output Voltage 15V, ±400mA, 12V Input Voltage, SIP; ki_fp_filters: *XP?POWER?ITXxxxxSA*; Footprint: Converter_DCDC:Converter_DCDC_XP_POWER-ITXxxxxSA_THT; Datasheet: https://www.xppower.com/pdfs/SF_ITX.pdf
pins: 1 -Vin, 2 +Vin, 6 +Vout, 7 -Vout, 8 NC hidden

## ITX1215SA-H
designator *  value ITX1215SA-H  Reference: PS
ki_keywords: XP_POWER DC/DC isolated Converter module; ki_description: XP Power 6W, 3000 VDC Isolated DC/DC Converter Module, Fully Regulated Single Output Voltage 15V, ±400mA, 12V Input Voltage, SIP; ki_fp_filters: *XP?POWER?ITXxxxxSA*; Footprint: Converter_DCDC:Converter_DCDC_XP_POWER-ITXxxxxSA_THT; Datasheet: https://www.xppower.com/pdfs/SF_ITX.pdf
pins: 1 -Vin, 2 +Vin, 6 +Vout, 7 -Vout, 8 NC hidden

## ITX1215SA-HR
designator *  value ITX1215SA-HR  Reference: PS
ki_keywords: XP_POWER DC/DC isolated Converter module; ki_description: XP Power 6W, 3000 VDC Isolated DC/DC Converter Module, Remote Control, Fully Regulated Single Output Voltage 15V, ±400mA, 12V Input Voltage, SIP; ki_fp_filters: *XP?POWER?ITxxxxx*; Footprint: Converter_DCDC:Converter_DCDC_XP_POWER-ITxxxxxS_THT; Datasheet: https://www.xppower.com/pdfs/SF_ITX.pdf
pins: 1 -Vin, 2 +Vin, 3 OnOff, 5 NC hidden, 6 +Vout, 7 -Vout, 8 NC hidden

## ITX1215SA-R
designator *  value ITX1215SA-R  Reference: PS
ki_keywords: XP_POWER DC/DC isolated Converter module; ki_description: XP Power 6W, 1000 VDC Isolated DC/DC Converter Module, Remote Control, Fully Regulated Single Output Voltage 15V, ±400mA, 12V Input Voltage, SIP; ki_fp_filters: *XP?POWER?ITxxxxx*; Footprint: Converter_DCDC:Converter_DCDC_XP_POWER-ITxxxxxS_THT; Datasheet: https://www.xppower.com/pdfs/SF_ITX.pdf
pins: 1 -Vin, 2 +Vin, 3 OnOff, 5 NC hidden, 6 +Vout, 7 -Vout, 8 NC hidden

## ITX1224SA
designator *  value ITX1224SA  Reference: PS
ki_keywords: XP_POWER DC/DC isolated Converter module; ki_description: XP Power 6W, 1000 VDC Isolated DC/DC Converter Module, Fully Regulated Single Output Voltage 24V, ±250mA, 12V Input Voltage, SIP; ki_fp_filters: *XP?POWER?ITXxxxxSA*; Footprint: Converter_DCDC:Converter_DCDC_XP_POWER-ITXxxxxSA_THT; Datasheet: https://www.xppower.com/pdfs/SF_ITX.pdf
pins: 1 -Vin, 2 +Vin, 6 +Vout, 7 -Vout, 8 NC hidden

## ITX1224SA-H
designator *  value ITX1224SA-H  Reference: PS
ki_keywords: XP_POWER DC/DC isolated Converter module; ki_description: XP Power 6W, 3000 VDC Isolated DC/DC Converter Module, Fully Regulated Single Output Voltage 24V, ±250mA, 12V Input Voltage, SIP; ki_fp_filters: *XP?POWER?ITXxxxxSA*; Footprint: Converter_DCDC:Converter_DCDC_XP_POWER-ITXxxxxSA_THT; Datasheet: https://www.xppower.com/pdfs/SF_ITX.pdf
pins: 1 -Vin, 2 +Vin, 6 +Vout, 7 -Vout, 8 NC hidden

## ITX1224SA-HR
designator *  value ITX1224SA-HR  Reference: PS
ki_keywords: XP_POWER DC/DC isolated Converter module; ki_description: XP Power 6W, 3000 VDC Isolated DC/DC Converter Module, Remote Control, Fully Regulated Single Output Voltage 24V, ±250mA, 12V Input Voltage, SIP; ki_fp_filters: *XP?POWER?ITxxxxx*; Footprint: Converter_DCDC:Converter_DCDC_XP_POWER-ITxxxxxS_THT; Datasheet: https://www.xppower.com/pdfs/SF_ITX.pdf
pins: 1 -Vin, 2 +Vin, 3 OnOff, 5 NC hidden, 6 +Vout, 7 -Vout, 8 NC hidden

## ITX1224SA-R
designator *  value ITX1224SA-R  Reference: PS
ki_keywords: XP_POWER DC/DC isolated Converter module; ki_description: XP Power 6W, 1000 VDC Isolated DC/DC Converter Module, Remote Control, Fully Regulated Single Output Voltage 24V, ±250mA, 12V Input Voltage, SIP; ki_fp_filters: *XP?POWER?ITxxxxx*; Footprint: Converter_DCDC:Converter_DCDC_XP_POWER-ITxxxxxS_THT; Datasheet: https://www.xppower.com/pdfs/SF_ITX.pdf
pins: 1 -Vin, 2 +Vin, 3 OnOff, 5 NC hidden, 6 +Vout, 7 -Vout, 8 NC hidden

## ITX2403SA
designator *  value ITX2403SA  Reference: PS
ki_keywords: XP_POWER DC/DC isolated Converter module; ki_description: XP Power 6W, 1000 VDC Isolated DC/DC Converter Module, Fully Regulated Single Output Voltage 3.3V, ±1300mA, 24V Input Voltage, SIP; ki_fp_filters: *XP?POWER?ITXxxxxSA*; Footprint: Converter_DCDC:Converter_DCDC_XP_POWER-ITXxxxxSA_THT; Datasheet: https://www.xppower.com/pdfs/SF_ITX.pdf
pins: 1 -Vin, 2 +Vin, 6 +Vout, 7 -Vout, 8 NC hidden

## ITX2403SA-H
designator *  value ITX2403SA-H  Reference: PS
ki_keywords: XP_POWER DC/DC isolated Converter module; ki_description: XP Power 6W, 3000 VDC Isolated DC/DC Converter Module, Fully Regulated Single Output Voltage 3.3V, ±1300mA, 24V Input Voltage, SIP; ki_fp_filters: *XP?POWER?ITXxxxxSA*; Footprint: Converter_DCDC:Converter_DCDC_XP_POWER-ITXxxxxSA_THT; Datasheet: https://www.xppower.com/pdfs/SF_ITX.pdf
pins: 1 -Vin, 2 +Vin, 6 +Vout, 7 -Vout, 8 NC hidden

## ITX2403SA-HR
designator *  value ITX2403SA-HR  Reference: PS
ki_keywords: XP_POWER DC/DC isolated Converter module; ki_description: XP Power 6W, 3000 VDC Isolated DC/DC Converter Module, Remote Control, Fully Regulated Single Output Voltage 3.3V, ±1300mA, 24V Input Voltage, SIP; ki_fp_filters: *XP?POWER?ITxxxxx*; Footprint: Converter_DCDC:Converter_DCDC_XP_POWER-ITxxxxxS_THT; Datasheet: https://www.xppower.com/pdfs/SF_ITX.pdf
pins: 1 -Vin, 2 +Vin, 3 OnOff, 5 NC hidden, 6 +Vout, 7 -Vout, 8 NC hidden

## ITX2403SA-R
designator *  value ITX2403SA-R  Reference: PS
ki_keywords: XP_POWER DC/DC isolated Converter module; ki_description: XP Power 6W, 1000 VDC Isolated DC/DC Converter Module, Remote Control, Fully Regulated Single Output Voltage 3.3V, ±1300mA, 24V Input Voltage, SIP; ki_fp_filters: *XP?POWER?ITxxxxx*; Footprint: Converter_DCDC:Converter_DCDC_XP_POWER-ITxxxxxS_THT; Datasheet: https://www.xppower.com/pdfs/SF_ITX.pdf
pins: 1 -Vin, 2 +Vin, 3 OnOff, 5 NC hidden, 6 +Vout, 7 -Vout, 8 NC hidden

## ITX2405S
designator *  value ITX2405S  Reference: PS
ki_keywords: XP_POWER DC/DC isolated Converter module; ki_description: XP Power 6W, 1000 VDC Isolated DC/DC Converter Module, Fully Regulated Dual Output Voltage ±5V, ±600mA, 24V Input Voltage, SIP; ki_fp_filters: *XP?POWER?ITxxxxx*; Footprint: Converter_DCDC:Converter_DCDC_XP_POWER-ITxxxxxS_THT; Datasheet: https://www.xppower.com/pdfs/SF_ITX.pdf
pins: 1 -Vin, 2 +Vin, 3 NC hidden, 5 NC hidden, 6 +Vout, 7 Common, 8 -Vout

## ITX2405S-H
designator *  value ITX2405S-H  Reference: PS
ki_keywords: XP_POWER DC/DC isolated Converter module; ki_description: XP Power 6W, 3000 VDC Isolated DC/DC Converter Module, Fully Regulated Dual Output Voltage ±5V, ±600mA, 24V Input Voltage, SIP; ki_fp_filters: *XP?POWER?ITxxxxx*; Footprint: Converter_DCDC:Converter_DCDC_XP_POWER-ITxxxxxS_THT; Datasheet: https://www.xppower.com/pdfs/SF_ITX.pdf
pins: 1 -Vin, 2 +Vin, 3 NC hidden, 5 NC hidden, 6 +Vout, 7 Common, 8 -Vout

## ITX2405S-HR
designator *  value ITX2405S-HR  Reference: PS
ki_keywords: XP_POWER DC/DC isolated Converter module; ki_description: XP Power 6W, 3000 VDC Isolated DC/DC Converter Module, Remote Control, Fully Regulated Dual Output Voltage ±5V, ±600mA, 24V Input Voltage, SIP; ki_fp_filters: *XP?POWER?ITxxxxx*; Footprint: Converter_DCDC:Converter_DCDC_XP_POWER-ITxxxxxS_THT; Datasheet: https://www.xppower.com/pdfs/SF_ITX.pdf
pins: 1 -Vin, 2 +Vin, 3 OnOff, 5 NC hidden, 6 +Vout, 7 Common, 8 -Vout

## ITX2405S-R
designator *  value ITX2405S-R  Reference: PS
ki_keywords: XP_POWER DC/DC isolated Converter module; ki_description: XP Power 6W, 1000 VDC Isolated DC/DC Converter Module, Remote Control, Fully Regulated Dual Output Voltage ±5V, ±600mA, 24V Input Voltage, SIP; ki_fp_filters: *XP?POWER?ITxxxxx*; Footprint: Converter_DCDC:Converter_DCDC_XP_POWER-ITxxxxxS_THT; Datasheet: https://www.xppower.com/pdfs/SF_ITX.pdf
pins: 1 -Vin, 2 +Vin, 3 OnOff, 5 NC hidden, 6 +Vout, 7 Common, 8 -Vout

## ITX2405SA
designator *  value ITX2405SA  Reference: PS
ki_keywords: XP_POWER DC/DC isolated Converter module; ki_description: XP Power 6W, 1000 VDC Isolated DC/DC Converter Module, Fully Regulated Single Output Voltage 5V, ±1200mA, 24V Input Voltage, SIP; ki_fp_filters: *XP?POWER?ITXxxxxSA*; Footprint: Converter_DCDC:Converter_DCDC_XP_POWER-ITXxxxxSA_THT; Datasheet: https://www.xppower.com/pdfs/SF_ITX.pdf
pins: 1 -Vin, 2 +Vin, 6 +Vout, 7 -Vout, 8 NC hidden

## ITX2405SA-H
designator *  value ITX2405SA-H  Reference: PS
ki_keywords: XP_POWER DC/DC isolated Converter module; ki_description: XP Power 6W, 3000 VDC Isolated DC/DC Converter Module, Fully Regulated Single Output Voltage 5V, ±1200mA, 24V Input Voltage, SIP; ki_fp_filters: *XP?POWER?ITXxxxxSA*; Footprint: Converter_DCDC:Converter_DCDC_XP_POWER-ITXxxxxSA_THT; Datasheet: https://www.xppower.com/pdfs/SF_ITX.pdf
pins: 1 -Vin, 2 +Vin, 6 +Vout, 7 -Vout, 8 NC hidden

## ITX2405SA-HR
designator *  value ITX2405SA-HR  Reference: PS
ki_keywords: XP_POWER DC/DC isolated Converter module; ki_description: XP Power 6W, 3000 VDC Isolated DC/DC Converter Module, Remote Control, Fully Regulated Single Output Voltage 5V, ±1200mA, 24V Input Voltage, SIP; ki_fp_filters: *XP?POWER?ITxxxxx*; Footprint: Converter_DCDC:Converter_DCDC_XP_POWER-ITxxxxxS_THT; Datasheet: https://www.xppower.com/pdfs/SF_ITX.pdf
pins: 1 -Vin, 2 +Vin, 3 OnOff, 5 NC hidden, 6 +Vout, 7 -Vout, 8 NC hidden

## ITX2405SA-R
designator *  value ITX2405SA-R  Reference: PS
ki_keywords: XP_POWER DC/DC isolated Converter module; ki_description: XP Power 6W, 1000 VDC Isolated DC/DC Converter Module, Remote Control, Fully Regulated Single Output Voltage 5V, ±1200mA, 24V Input Voltage, SIP; ki_fp_filters: *XP?POWER?ITxxxxx*; Footprint: Converter_DCDC:Converter_DCDC_XP_POWER-ITxxxxxS_THT; Datasheet: https://www.xppower.com/pdfs/SF_ITX.pdf
pins: 1 -Vin, 2 +Vin, 3 OnOff, 5 NC hidden, 6 +Vout, 7 -Vout, 8 NC hidden

## ITX2409SA
designator *  value ITX2409SA  Reference: PS
ki_keywords: XP_POWER DC/DC isolated Converter module; ki_description: XP Power 6W, 1000 VDC Isolated DC/DC Converter Module, Fully Regulated Single Output Voltage 9V, ±666mA, 24V Input Voltage, SIP; ki_fp_filters: *XP?POWER?ITXxxxxSA*; Footprint: Converter_DCDC:Converter_DCDC_XP_POWER-ITXxxxxSA_THT; Datasheet: https://www.xppower.com/pdfs/SF_ITX.pdf
pins: 1 -Vin, 2 +Vin, 6 +Vout, 7 -Vout, 8 NC hidden

## ITX2409SA-H
designator *  value ITX2409SA-H  Reference: PS
ki_keywords: XP_POWER DC/DC isolated Converter module; ki_description: XP Power 6W, 3000 VDC Isolated DC/DC Converter Module, Fully Regulated Single Output Voltage 9V, ±666mA, 24V Input Voltage, SIP; ki_fp_filters: *XP?POWER?ITXxxxxSA*; Footprint: Converter_DCDC:Converter_DCDC_XP_POWER-ITXxxxxSA_THT; Datasheet: https://www.xppower.com/pdfs/SF_ITX.pdf
pins: 1 -Vin, 2 +Vin, 6 +Vout, 7 -Vout, 8 NC hidden

## ITX2409SA-HR
designator *  value ITX2409SA-HR  Reference: PS
ki_keywords: XP_POWER DC/DC isolated Converter module; ki_description: XP Power 6W, 3000 VDC Isolated DC/DC Converter Module, Remote Control, Fully Regulated Single Output Voltage 9V, ±666mA, 24V Input Voltage, SIP; ki_fp_filters: *XP?POWER?ITxxxxx*; Footprint: Converter_DCDC:Converter_DCDC_XP_POWER-ITxxxxxS_THT; Datasheet: https://www.xppower.com/pdfs/SF_ITX.pdf
pins: 1 -Vin, 2 +Vin, 3 OnOff, 5 NC hidden, 6 +Vout, 7 -Vout, 8 NC hidden

## ITX2409SA-R
designator *  value ITX2409SA-R  Reference: PS
ki_keywords: XP_POWER DC/DC isolated Converter module; ki_description: XP Power 6W, 1000 VDC Isolated DC/DC Converter Module, Remote Control, Fully Regulated Single Output Voltage 9V, ±666mA, 24V Input Voltage, SIP; ki_fp_filters: *XP?POWER?ITxxxxx*; Footprint: Converter_DCDC:Converter_DCDC_XP_POWER-ITxxxxxS_THT; Datasheet: https://www.xppower.com/pdfs/SF_ITX.pdf
pins: 1 -Vin, 2 +Vin, 3 OnOff, 5 NC hidden, 6 +Vout, 7 -Vout, 8 NC hidden

## ITX2412S
designator *  value ITX2412S  Reference: PS
ki_keywords: XP_POWER DC/DC isolated Converter module; ki_description: XP Power 6W, 1000 VDC Isolated DC/DC Converter Module, Fully Regulated Dual Output Voltage ±12V, ±250mA, 24V Input Voltage, SIP; ki_fp_filters: *XP?POWER?ITxxxxx*; Footprint: Converter_DCDC:Converter_DCDC_XP_POWER-ITxxxxxS_THT; Datasheet: https://www.xppower.com/pdfs/SF_ITX.pdf
pins: 1 -Vin, 2 +Vin, 3 NC hidden, 5 NC hidden, 6 +Vout, 7 Common, 8 -Vout

## ITX2412S-H
designator *  value ITX2412S-H  Reference: PS
ki_keywords: XP_POWER DC/DC isolated Converter module; ki_description: XP Power 6W, 3000 VDC Isolated DC/DC Converter Module, Fully Regulated Dual Output Voltage ±12V, ±250mA, 24V Input Voltage, SIP; ki_fp_filters: *XP?POWER?ITxxxxx*; Footprint: Converter_DCDC:Converter_DCDC_XP_POWER-ITxxxxxS_THT; Datasheet: https://www.xppower.com/pdfs/SF_ITX.pdf
pins: 1 -Vin, 2 +Vin, 3 NC hidden, 5 NC hidden, 6 +Vout, 7 Common, 8 -Vout

## ITX2412S-HR
designator *  value ITX2412S-HR  Reference: PS
ki_keywords: XP_POWER DC/DC isolated Converter module; ki_description: XP Power 6W, 3000 VDC Isolated DC/DC Converter Module, Remote Control, Fully Regulated Dual Output Voltage ±12V, ±250mA, 24V Input Voltage, SIP; ki_fp_filters: *XP?POWER?ITxxxxx*; Footprint: Converter_DCDC:Converter_DCDC_XP_POWER-ITxxxxxS_THT; Datasheet: https://www.xppower.com/pdfs/SF_ITX.pdf
pins: 1 -Vin, 2 +Vin, 3 OnOff, 5 NC hidden, 6 +Vout, 7 Common, 8 -Vout

## ITX2412S-R
designator *  value ITX2412S-R  Reference: PS
ki_keywords: XP_POWER DC/DC isolated Converter module; ki_description: XP Power 6W, 1000 VDC Isolated DC/DC Converter Module, Remote Control, Fully Regulated Dual Output Voltage ±12V, ±250mA, 24V Input Voltage, SIP; ki_fp_filters: *XP?POWER?ITxxxxx*; Footprint: Converter_DCDC:Converter_DCDC_XP_POWER-ITxxxxxS_THT; Datasheet: https://www.xppower.com/pdfs/SF_ITX.pdf
pins: 1 -Vin, 2 +Vin, 3 OnOff, 5 NC hidden, 6 +Vout, 7 Common, 8 -Vout

## ITX2412SA
designator *  value ITX2412SA  Reference: PS
ki_keywords: XP_POWER DC/DC isolated Converter module; ki_description: XP Power 6W, 1000 VDC Isolated DC/DC Converter Module, Fully Regulated Single Output Voltage 12V, ±500mA, 24V Input Voltage, SIP; ki_fp_filters: *XP?POWER?ITXxxxxSA*; Footprint: Converter_DCDC:Converter_DCDC_XP_POWER-ITXxxxxSA_THT; Datasheet: https://www.xppower.com/pdfs/SF_ITX.pdf
pins: 1 -Vin, 2 +Vin, 6 +Vout, 7 -Vout, 8 NC hidden

## ITX2412SA-H
designator *  value ITX2412SA-H  Reference: PS
ki_keywords: XP_POWER DC/DC isolated Converter module; ki_description: XP Power 6W, 3000 VDC Isolated DC/DC Converter Module, Fully Regulated Single Output Voltage 12V, ±500mA, 24V Input Voltage, SIP; ki_fp_filters: *XP?POWER?ITXxxxxSA*; Footprint: Converter_DCDC:Converter_DCDC_XP_POWER-ITXxxxxSA_THT; Datasheet: https://www.xppower.com/pdfs/SF_ITX.pdf
pins: 1 -Vin, 2 +Vin, 6 +Vout, 7 -Vout, 8 NC hidden

## ITX2412SA-HR
designator *  value ITX2412SA-HR  Reference: PS
ki_keywords: XP_POWER DC/DC isolated Converter module; ki_description: XP Power 6W, 3000 VDC Isolated DC/DC Converter Module, Remote Control, Fully Regulated Single Output Voltage 12V, ±500mA, 24V Input Voltage, SIP; ki_fp_filters: *XP?POWER?ITxxxxx*; Footprint: Converter_DCDC:Converter_DCDC_XP_POWER-ITxxxxxS_THT; Datasheet: https://www.xppower.com/pdfs/SF_ITX.pdf
pins: 1 -Vin, 2 +Vin, 3 OnOff, 5 NC hidden, 6 +Vout, 7 -Vout, 8 NC hidden

## ITX2412SA-R
designator *  value ITX2412SA-R  Reference: PS
ki_keywords: XP_POWER DC/DC isolated Converter module; ki_description: XP Power 6W, 1000 VDC Isolated DC/DC Converter Module, Remote Control, Fully Regulated Single Output Voltage 12V, ±500mA, 24V Input Voltage, SIP; ki_fp_filters: *XP?POWER?ITxxxxx*; Footprint: Converter_DCDC:Converter_DCDC_XP_POWER-ITxxxxxS_THT; Datasheet: https://www.xppower.com/pdfs/SF_ITX.pdf
pins: 1 -Vin, 2 +Vin, 3 OnOff, 5 NC hidden, 6 +Vout, 7 -Vout, 8 NC hidden

## ITX2415S
designator *  value ITX2415S  Reference: PS
ki_keywords: XP_POWER DC/DC isolated Converter module; ki_description: XP Power 6W, 1000 VDC Isolated DC/DC Converter Module, Fully Regulated Dual Output Voltage ±15V, ±200mA, 24V Input Voltage, SIP; ki_fp_filters: *XP?POWER?ITxxxxx*; Footprint: Converter_DCDC:Converter_DCDC_XP_POWER-ITxxxxxS_THT; Datasheet: https://www.xppower.com/pdfs/SF_ITX.pdf
pins: 1 -Vin, 2 +Vin, 3 NC hidden, 5 NC hidden, 6 +Vout, 7 Common, 8 -Vout

## ITX2415S-H
designator *  value ITX2415S-H  Reference: PS
ki_keywords: XP_POWER DC/DC isolated Converter module; ki_description: XP Power 6W, 3000 VDC Isolated DC/DC Converter Module, Fully Regulated Dual Output Voltage ±15V, ±200mA, 24V Input Voltage, SIP; ki_fp_filters: *XP?POWER?ITxxxxx*; Footprint: Converter_DCDC:Converter_DCDC_XP_POWER-ITxxxxxS_THT; Datasheet: https://www.xppower.com/pdfs/SF_ITX.pdf
pins: 1 -Vin, 2 +Vin, 3 NC hidden, 5 NC hidden, 6 +Vout, 7 Common, 8 -Vout

## ITX2415S-HR
designator *  value ITX2415S-HR  Reference: PS
ki_keywords: XP_POWER DC/DC isolated Converter module; ki_description: XP Power 6W, 3000 VDC Isolated DC/DC Converter Module, Remote Control, Fully Regulated Dual Output Voltage ±15V, ±200mA, 24V Input Voltage, SIP; ki_fp_filters: *XP?POWER?ITxxxxx*; Footprint: Converter_DCDC:Converter_DCDC_XP_POWER-ITxxxxxS_THT; Datasheet: https://www.xppower.com/pdfs/SF_ITX.pdf
pins: 1 -Vin, 2 +Vin, 3 OnOff, 5 NC hidden, 6 +Vout, 7 Common, 8 -Vout

## ITX2415S-R
designator *  value ITX2415S-R  Reference: PS
ki_keywords: XP_POWER DC/DC isolated Converter module; ki_description: XP Power 6W, 1000 VDC Isolated DC/DC Converter Module, Remote Control, Fully Regulated Dual Output Voltage ±15V, ±200mA, 24V Input Voltage, SIP; ki_fp_filters: *XP?POWER?ITxxxxx*; Footprint: Converter_DCDC:Converter_DCDC_XP_POWER-ITxxxxxS_THT; Datasheet: https://www.xppower.com/pdfs/SF_ITX.pdf
pins: 1 -Vin, 2 +Vin, 3 OnOff, 5 NC hidden, 6 +Vout, 7 Common, 8 -Vout

## ITX2415SA
designator *  value ITX2415SA  Reference: PS
ki_keywords: XP_POWER DC/DC isolated Converter module; ki_description: XP Power 6W, 1000 VDC Isolated DC/DC Converter Module, Fully Regulated Single Output Voltage 15V, ±400mA, 24V Input Voltage, SIP; ki_fp_filters: *XP?POWER?ITXxxxxSA*; Footprint: Converter_DCDC:Converter_DCDC_XP_POWER-ITXxxxxSA_THT; Datasheet: https://www.xppower.com/pdfs/SF_ITX.pdf
pins: 1 -Vin, 2 +Vin, 6 +Vout, 7 -Vout, 8 NC hidden

## ITX2415SA-H
designator *  value ITX2415SA-H  Reference: PS
ki_keywords: XP_POWER DC/DC isolated Converter module; ki_description: XP Power 6W, 3000 VDC Isolated DC/DC Converter Module, Fully Regulated Single Output Voltage 15V, ±400mA, 24V Input Voltage, SIP; ki_fp_filters: *XP?POWER?ITXxxxxSA*; Footprint: Converter_DCDC:Converter_DCDC_XP_POWER-ITXxxxxSA_THT; Datasheet: https://www.xppower.com/pdfs/SF_ITX.pdf
pins: 1 -Vin, 2 +Vin, 6 +Vout, 7 -Vout, 8 NC hidden

## ITX2415SA-HR
designator *  value ITX2415SA-HR  Reference: PS
ki_keywords: XP_POWER DC/DC isolated Converter module; ki_description: XP Power 6W, 3000 VDC Isolated DC/DC Converter Module, Remote Control, Fully Regulated Single Output Voltage 15V, ±400mA, 24V Input Voltage, SIP; ki_fp_filters: *XP?POWER?ITxxxxx*; Footprint: Converter_DCDC:Converter_DCDC_XP_POWER-ITxxxxxS_THT; Datasheet: https://www.xppower.com/pdfs/SF_ITX.pdf
pins: 1 -Vin, 2 +Vin, 3 OnOff, 5 NC hidden, 6 +Vout, 7 -Vout, 8 NC hidden

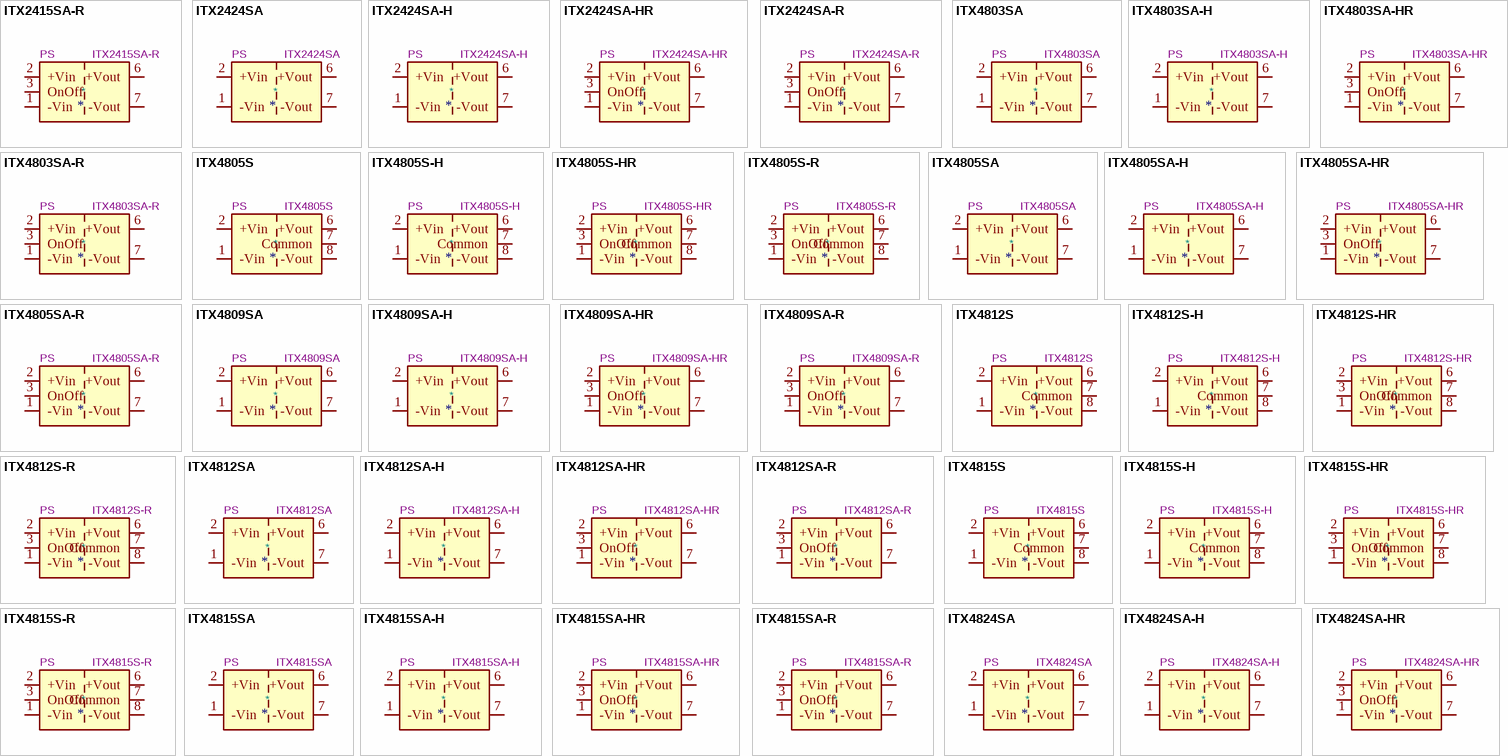
[diagram p8: symbols ITX2415SA-R to ITX4824SA-HR]

## ITX2415SA-R
designator *  value ITX2415SA-R  Reference: PS
ki_keywords: XP_POWER DC/DC isolated Converter module; ki_description: XP Power 6W, 1000 VDC Isolated DC/DC Converter Module, Remote Control, Fully Regulated Single Output Voltage 15V, ±400mA, 24V Input Voltage, SIP; ki_fp_filters: *XP?POWER?ITxxxxx*; Footprint: Converter_DCDC:Converter_DCDC_XP_POWER-ITxxxxxS_THT; Datasheet: https://www.xppower.com/pdfs/SF_ITX.pdf
pins: 1 -Vin, 2 +Vin, 3 OnOff, 5 NC hidden, 6 +Vout, 7 -Vout, 8 NC hidden

## ITX2424SA
designator *  value ITX2424SA  Reference: PS
ki_keywords: XP_POWER DC/DC isolated Converter module; ki_description: XP Power 6W, 1000 VDC Isolated DC/DC Converter Module, Fully Regulated Single Output Voltage 24V, ±250mA, 24V Input Voltage, SIP; ki_fp_filters: *XP?POWER?ITXxxxxSA*; Footprint: Converter_DCDC:Converter_DCDC_XP_POWER-ITXxxxxSA_THT; Datasheet: https://www.xppower.com/pdfs/SF_ITX.pdf
pins: 1 -Vin, 2 +Vin, 6 +Vout, 7 -Vout, 8 NC hidden

## ITX2424SA-H
designator *  value ITX2424SA-H  Reference: PS
ki_keywords: XP_POWER DC/DC isolated Converter module; ki_description: XP Power 6W, 3000 VDC Isolated DC/DC Converter Module, Fully Regulated Single Output Voltage 24V, ±250mA, 24V Input Voltage, SIP; ki_fp_filters: *XP?POWER?ITXxxxxSA*; Footprint: Converter_DCDC:Converter_DCDC_XP_POWER-ITXxxxxSA_THT; Datasheet: https://www.xppower.com/pdfs/SF_ITX.pdf
pins: 1 -Vin, 2 +Vin, 6 +Vout, 7 -Vout, 8 NC hidden

## ITX2424SA-HR
designator *  value ITX2424SA-HR  Reference: PS
ki_keywords: XP_POWER DC/DC isolated Converter module; ki_description: XP Power 6W, 3000 VDC Isolated DC/DC Converter Module, Remote Control, Fully Regulated Single Output Voltage 24V, ±250mA, 24V Input Voltage, SIP; ki_fp_filters: *XP?POWER?ITxxxxx*; Footprint: Converter_DCDC:Converter_DCDC_XP_POWER-ITxxxxxS_THT; Datasheet: https://www.xppower.com/pdfs/SF_ITX.pdf
pins: 1 -Vin, 2 +Vin, 3 OnOff, 5 NC hidden, 6 +Vout, 7 -Vout, 8 NC hidden